# EAGLE library part DS1307 (library dallas-1+p-dip)
I2C Serial RTC w/56 bytes battery backed RAM
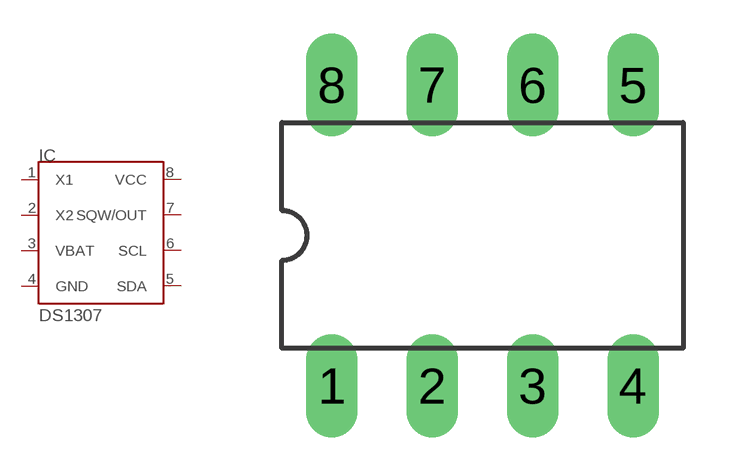
[diagram p0: symbol with the pads of P-DIP; footprint P-DIP]

Designator prefix IC

## DS1307P-DIP  [P-DIP]
1  X1  in
2  X2  out
3  VBAT  pwr
4  GND  pwr
5  SDA
6  SCL  in
7  SQW/OUT  out
8  VCC  pwr

## Footprint P-DIP (pad centres in mm)
drill 0.8 long: 1 -11.43,-2.54; 2 -8.89,-2.54; 3 -6.35,-2.54; 4 -3.81,-2.54; 5 -3.81,5.08; 6 -6.35,5.08; 7 -8.89,5.08; 8 -11.43,5.08